# Altium schematic symbol library NB-Lib.SchLib: 12 symbols
Pins are listed as number, name and electrical type; pins without a type are passive.

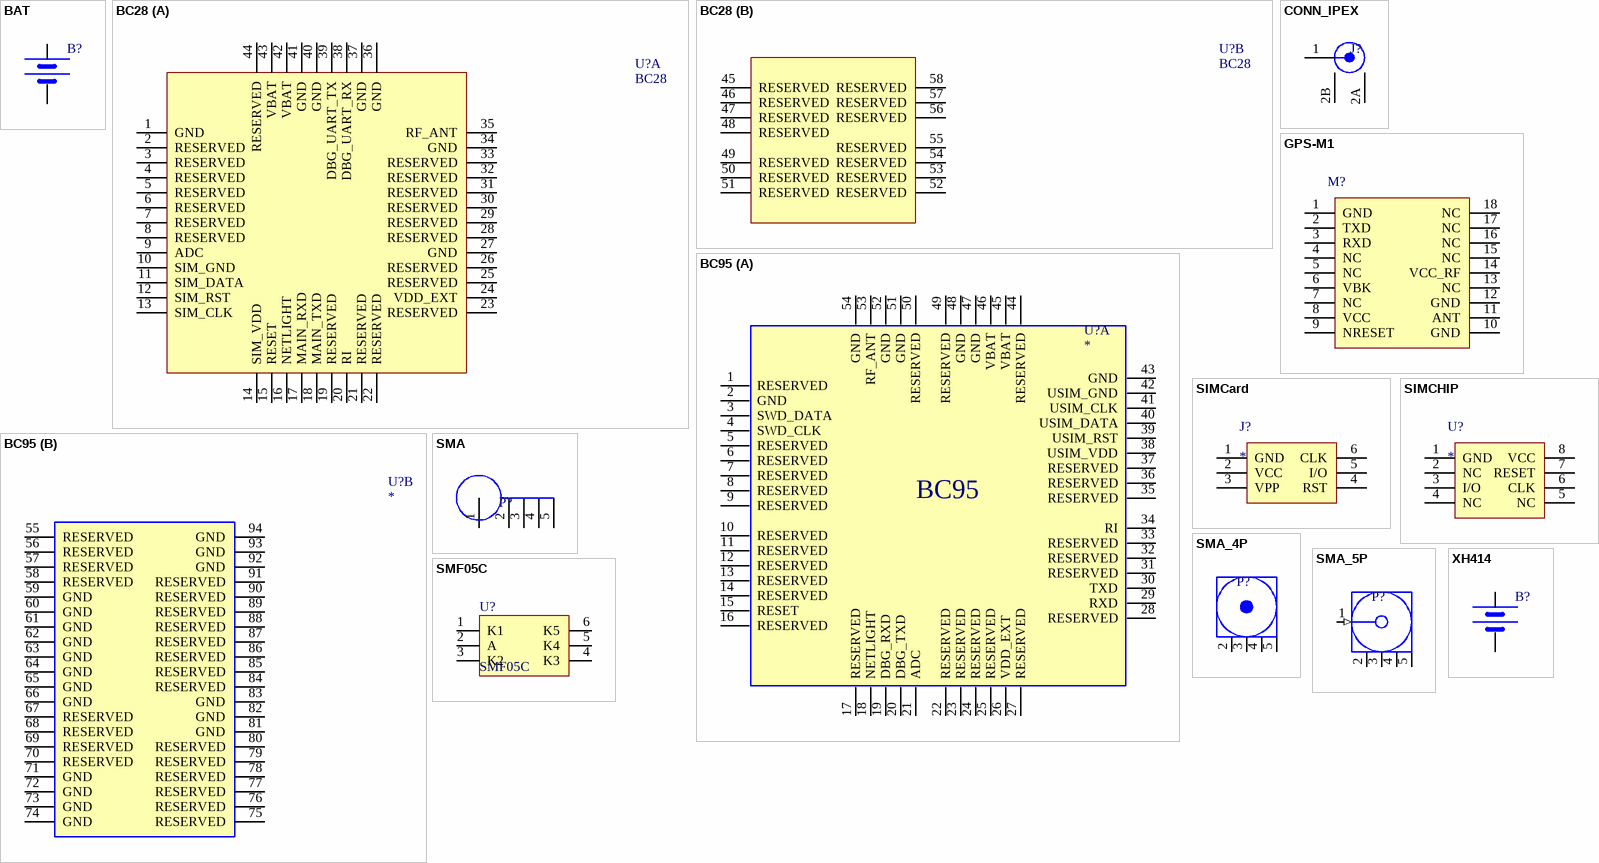
[diagram p0: symbols BAT to XH414]

## BAT
designator B?
footprint HDR1X2-2.54
pins: 1 VCC, 2 GND

## BC28
designator U?
Manufacturer: QUECTEL; Part Value: BC28; Part Number: BC28
footprint BC28
part A pins: 1 GND, 2 RESERVED, 3 RESERVED, 4 RESERVED, 5 RESERVED, 6 RESERVED, 7 RESERVED, 8 RESERVED, 9 ADC, 10 SIM_GND, 11 SIM_DATA, 12 SIM_RST, 13 SIM_CLK, 14 SIM_VDD, 15 RESET, 16 NETLIGHT, 17 MAIN_RXD, 18 MAIN_TXD, 19 RESERVED, 20 RI, 21 RESERVED, 22 RESERVED, 23 RESERVED, 24 VDD_EXT, 25 RESERVED, 26 RESERVED, 27 GND, 28 RESERVED, 29 RESERVED, 30 RESERVED, 31 RESERVED, 32 RESERVED, 33 RESERVED, 34 GND, 35 RF_ANT, 36 GND, 37 GND, 38 DBG_UART_RX, 39 DBG_UART_TX, 40 GND, 41 GND, 42 VBAT, 43 VBAT, 44 RESERVED
part B pins: 45 RESERVED, 46 RESERVED, 47 RESERVED, 48 RESERVED, 49 RESERVED, 50 RESERVED, 51 RESERVED, 52 RESERVED, 53 RESERVED, 54 RESERVED, 55 RESERVED, 56 RESERVED, 57 RESERVED, 58 RESERVED

## BC95
designator U?
Part Value: *; Manufacturer: *; Part Number: *
footprint BC95
part A pins: 1 RESERVED, 2 GND, 3 SWD_DATA, 4 SWD_CLK, 5 RESERVED, 6 RESERVED, 7 RESERVED, 8 RESERVED, 9 RESERVED, 10 RESERVED, 11 RESERVED, 12 RESERVED, 13 RESERVED, 14 RESERVED, 15 RESET, 16 RESERVED, 17 RESERVED, 18 NETLIGHT, 19 DBG_RXD, 20 DBG_TXD, 21 ADC, 22 RESERVED, 23 RESERVED, 24 RESERVED, 25 RESERVED, 26 VDD_EXT, 27 RESERVED, 28 RESERVED, 29 RXD, 30 TXD, 31 RESERVED, 32 RESERVED, 33 RESERVED, 34 RI, 35 RESERVED, 36 RESERVED, 37 RESERVED, 38 USIM_VDD, 39 USIM_RST, 40 USIM_DATA, 41 USIM_CLK, 42 USIM_GND, 43 GND, 44 RESERVED, 45 VBAT, 46 VBAT, 47 GND, 48 GND, 49 RESERVED, 50 RESERVED, 51 GND, 52 GND, 53 RF_ANT, 54 GND
part B pins: 55 RESERVED, 56 RESERVED, 57 RESERVED, 58 RESERVED, 59 GND, 60 GND, 61 GND, 62 GND, 63 GND, 64 GND, 65 GND, 66 GND, 67 RESERVED, 68 RESERVED, 69 RESERVED, 70 RESERVED, 71 GND, 72 GND, 73 GND, 74 GND, 75 RESERVED, 76 RESERVED, 77 RESERVED, 78 RESERVED, 79 RESERVED, 80 RESERVED, 81 GND, 82 GND, 83 GND, 84 RESERVED, 85 RESERVED, 86 RESERVED, 87 RESERVED, 88 RESERVED, 89 RESERVED, 90 RESERVED, 91 RESERVED, 92 GND, 93 GND, 94 GND
2 alternate drawings of the same symbol

## CONN_IPEX
designator J?  (value not drawn)
Part Number: IPEX
footprint IPEX
footprint IPEX-XS
pins: 1 CENTER, 2A GND1, 2B GND2

## GPS-M1
designator M?
Manufacturer: *; Part Number: *; Part Value: *
footprint SIM28ML
pins: 1 GND, 2 TXD, 3 RXD, 4 NC, 5 NC, 6 VBK, 7 NC, 8 VCC, 9 NRESET, 10 GND, 11 ANT, 12 GND, 13 NC, 14 VCC_RF, 15 NC, 16 NC, 17 NC, 18 NC

## SIMCard
designator J?
micro sim card; Part Value: *; Manufacturer: *; Part Number: *
footprint MICRO-SIM (6P 自弹式)
pins: 1 GND, 2 VCC, 3 VPP, 4 RST, 5 I/O, 6 CLK, M1 hidden to GND, M2 hidden to GND, M3 hidden to GND, M4 hidden to GND

## SIMCHIP
designator U?
micro sim card; Part Value: *; Manufacturer: *; Part Number: *
footprint SIMCHIP
pins: 0 GND hidden, 1 GND, 2 NC, 3 I/O, 4 NC, 5 NC, 6 CLK, 7 RESET, 8 VCC

## SMA
designator P?
Connector 8pins
footprint SMA-DIP
pins: 1, 2, 3, 4, 5

## SMA_4P
designator P?
Connector 8pins
footprint SMA-L17MM-H13MM
pins: 2 GND (power), 3 GND (power), 4 GND (power), 5 GND (power)

## SMA_5P
designator P?
Connector 8pins
footprint SMA-DIP-B
pins: 1 Signal (in) "Signal Pin", 2 GND (power), 3 GND (power), 4 GND (power), 5 GND (power)

## SMF05C
designator U?
TVS; Manufacturer: *; Part Number: *; Part Value: *
footprint SOT363 (SOT-363)
pins: 1 K1, 2 A, 3 K2, 4 K3, 5 K4, 6 K5

## XH414
designator B?
Part Value: XH414H IV01E
footprint XH414
pins: 1 VCC, 2 GND